# Altium schematic symbol library USBLC.SchLib: 1 symbol
Pins are listed as number, name and electrical type; pins without a type are passive.

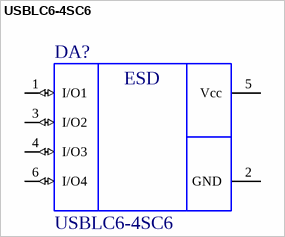
[diagram p0: symbol USBLC6-4SC6]

## USBLC6-4SC6
designator DA?
4-Chanel ESD solution; ValueSch: USBLC6-4SC6
pins: 1 I/O1 (io), 2 GND (power), 3 I/O2 (io), 4 I/O3 (io), 5 Vcc (power), 6 I/O4 (io)
text: ESD